# Altium integrated library Capacitors.IntLib: 11 symbols
Pins are listed as number, name and electrical type; pins without a type are passive.

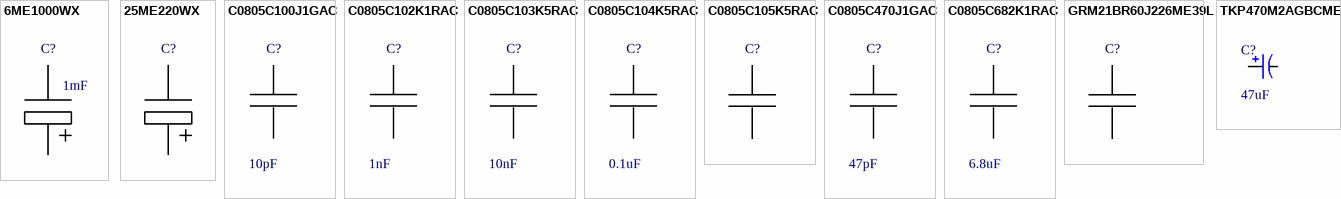
[diagram p0: symbols 6ME1000WX to TKP470M2AGBCME4]

## 6ME1000WX
designator C?  value 1mF  (hidden comment: 6ME1000WX)
1m 6.3V; code: 6723258; where buy: https://www.elfa.se/elfa3~ee_ru/elfa/init.do?item=67-232-58&toc=19089&q=67-232-58++; cost: 0,37; datasheet: https://www1.elfa.se/data1/wwwroot/assets/datasheets/06723225.pdf
footprint D_10, RM_5
pins: 1, 2

## 25ME220WX
designator C?  (value not drawn)
220uF, 25V; code: 6723423; where buy: https://www.elfa.se/elfa3~ee_ru/elfa/init.do?item=67-234-23&toc=19089; datasheet: https://www1.elfa.se/data1/wwwroot/assets/datasheets/me-wx-series_eng_tds.pdf; cost: 0,25
footprint D_8, RM_3.5
pins: 1, 2

## C0805C100J1GAC
designator C?  value 10pF  (hidden comment: C0805C100J1GAC)
10p, 100V; code: 6576805; where buy: https://www.elfa.se/elfa3~ee_ru/elfa/init.do?item=65-768-05&toc=0; cost: 0,266
footprint C_0805
pins: 1, 2

## C0805C102K1RAC
designator C?  value 1nF  (hidden comment: C0805C102K1RAC)
1n, 100V; code: 6576441; where buy: https://www.elfa.se/elfa3~ee_ru/elfa/init.do?item=65-764-41&toc=0; cost: 0,2
footprint C_0805
pins: 1, 2

## C0805C103K5RAC
designator C?  value 10nF  (hidden comment: C0805C103K5RAC)
10n, 50V; code: 6576565; where buy: https://www.elfa.se/elfa3~ee_ru/elfa/init.do?item=65-765-65&toc=0; cost: 0,226
footprint C_0805
pins: 1, 2

## C0805C104K5RAC
designator C?  value 0.1uF  (hidden comment: C0805C104K5RAC)
0.1u, 50V; code: 6576631; where buy: https://www.elfa.se/elfa3~ee_ru/elfa/init.do?item=65-766-31&toc=18803&q=C0805C104K5RAC; cost: 0,414
footprint C_0805
pins: 1, 2

## C0805C105K5RAC
designator C?  (value not drawn)
1u, 16V; code: 6580971; where buy: https://www.elfa.se/elfa3~ee_ru/elfa/init.do?item=65-809-71&toc=18803&q=65-809-71++; value: 1u; cost: 0,469
footprint C_0805
pins: 1, 2

## C0805C470J1GAC
designator C?  value 47pF  (hidden comment: C0805C470J1GAC)
47p, 100V; code: 6576888; where buy: https://www.elfa.se/elfa3~ee_ru/elfa/init.do?item=65-768-88&toc=0; cost: 0,266
footprint C_0805
pins: 1, 2

## C0805C682K1RAC
designator C?  value 6.8uF  (hidden comment: C0805C682K1RAC)
6.8u, 100V; code: 6580909; where buy: https://www.elfa.se/elfa3~ee_ru/elfa/init.do?item=65-809-06&toc=0; cost: 0,33
footprint C_0805
pins: 1, 2

## GRM21BR60J226ME39L
designator C?  (value not drawn)
22u, 6.3V; value: 22 uF; code: 6576812; where buy: https://www.elfa.se/elfa3~ee_ru/elfa/init.do?item=65-768-12&toc=18803&q=65-768-12++; cost: 0,383; datasheet: https://www1.elfa.se/data1/wwwroot/assets/datasheets/GRMSeries_HighDielectricType_eng.pdf
footprint C_0805
pins: 1, 2

## TKP470M2AGBCME4
designator C?  value 47uF  (hidden comment: *)
47 uF, 100 VDC; code: 6716609; cost: 0,21; datasheet: https://www1.elfa.se/data1/wwwroot/assets/datasheets/tk-series_eng_tds.pdf; where buy: https://www.elfa.se/elfa3~ee_ru/elfa/init.do?item=67-166-09&toc=0&q=TKP47
footprint D_10, RM_5
pins: 1, 2